# EAGLE library part NRF24L01 (library nrf24l01-breakout)
NRF24L01 Breakout Module
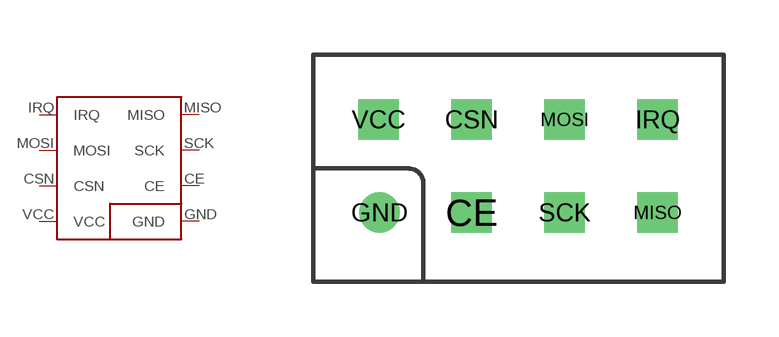
[diagram p0: symbol with the pads of 8-PIN-HEADER; footprint 8-PIN-HEADER]

Designator prefix -

## NRF24L01DIP  [8-PIN-HEADER]
CE  CE
CSN  CSN
GND  GND  pwr
IRQ  IRQ
MISO  MISO
MOSI  MOSI
SCK  SCK
VCC  VCC  pwr

## Footprint 8-PIN-HEADER (pad centres in mm)
drill 0.6 square: CE -5.08,0; CSN -5.08,2.54; IRQ 0,2.54; MISO 0,0; MOSI -2.54,2.54; SCK -2.54,0; VCC -7.62,2.54
drill 0.6: GND -7.6,0